# Altium footprint library Gravix-CAP.PcbLib: 3 footprints
Each footprint in its own frame and in the unit in brackets; x right, y up, seen from the top. Pads: shape width x height; smd on the part's side, far side on the other; paste and mask are expansions set on the pad; w line width, h text height; cw(c..) or ccw(c..) is an arc to the next point about the centre after c.
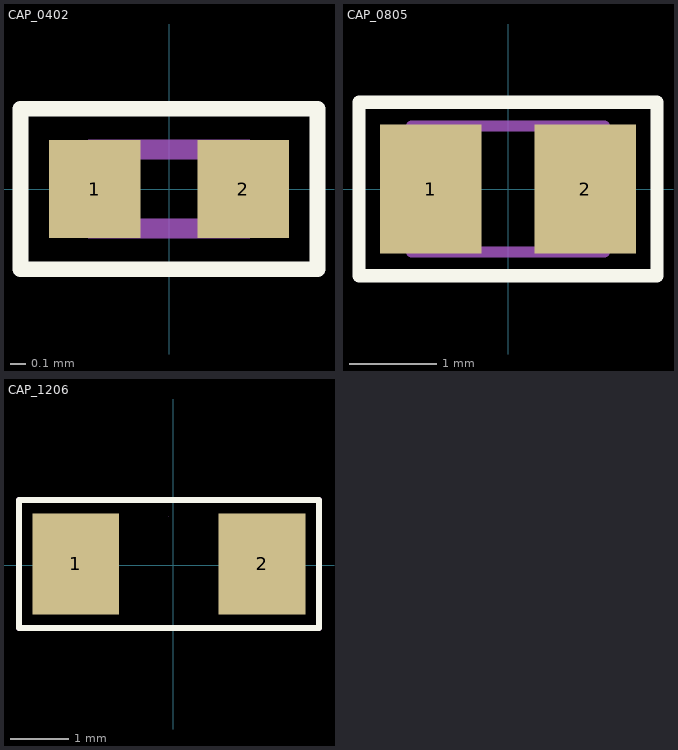
[diagram p0: the footprints below, top view; thin cyan lines are the x and y axes]

## CAP_0402 [mm]
pads (2):
  rect 0.58x0.62 smd: 1(-0.47,0) 2(0.47,0)
Top Overlay:
  lines w0.1: -0.94,-0.508 -0.94,0.508 0.94,0.508 0.94,-0.508 -0.94,-0.508
Mechanical 13:
  region: 0.5,-0.25 0.25,-0.25 0.25,0.25 0.5,0.25
  region: -0.25,-0.25 -0.501,-0.25 -0.501,0.25 -0.25,0.25
  lines w0.127: -0.5,-0.25 -0.5,0.25 0.5,0.25 0.5,-0.25 -0.5,-0.25
Mechanical 15:
  lines w0.05: -0.95,-0.5 -0.95,0.5 0.95,0.5 0.95,-0.5 -0.95,-0.5
3D body "step_temp.STEP": height 0.55, standoff 0, extent -0.5,-0.25 0.5,0.25

## CAP_0805 [mm]
pads (2):
  rect 1.16x1.47 smd: 1(-0.88,0) 2(0.88,0)
Top Overlay:
  lines w0.152: -1.702,-0.991 1.702,-0.991 1.702,0.991 -1.702,0.991 -1.702,-0.991
Mechanical 13:
  lines w0.127: -1.1,-0.72 1.1,-0.72 1.1,0.72 -1.1,0.72 -1.1,-0.72
Mechanical 15:
  lines w0.05: -1.713,-0.983 1.713,-0.983 1.713,0.983 -1.713,0.983 -1.713,-0.983
3D body "step_temp.STEP": height 0.94, standoff 0, extent -1.005,-0.625 1.005,0.625

## CAP_1206 [mm]
pads (2):
  rect 1.485x1.728 smd paste-100 mask+0.051: 1(-1.671,0.026) 2(1.515,0.026)
Top Overlay:
  lines w0.1: -2.642,-1.067 2.489,-1.067 2.489,1.118 -2.642,1.118 -2.642,-1.067
Top Paste:
  region: 0.772,-0.738 0.772,-0.368 0.872,-0.268 1.177,-0.268 1.277,-0.168 1.277,0.22 1.177,0.32 0.872,0.32 0.772,0.42 0.772,0.79 0.872,0.89 2.157,0.89 2.257,0.79 2.257,-0.738 2.157,-0.838 0.872,-0.838
  region: -0.928,-0.738 -0.928,-0.368 -1.028,-0.268 -1.333,-0.268 -1.433,-0.168 -1.433,0.22 -1.333,0.32 -1.028,0.32 -0.928,0.42 -0.928,0.79 -1.028,0.89 -2.313,0.89 -2.413,0.79 -2.413,-0.738 -2.313,-0.838 -1.028,-0.838
Mechanical 15:
  lines w0.003: -0.078,0.835 -0.078,0.836
  lines w0.1: -2.642,-1.067 2.489,-1.067 2.489,1.118 -2.642,1.118 -2.642,-1.067
3D body "step_temp.STEP": height 1.8, standoff 0, extent -1.676,-0.775 1.524,0.825